# Altium footprint library USBC_to_DP.PcbLib: 21 footprints (part 2 of 2)
Each footprint in its own frame and in the unit in brackets; x right, y up, seen from the top. Pads: shape width x height; smd on the part's side, far side on the other; paste and mask are expansions set on the pad; w line width, h text height; cw(c..) or ccw(c..) is an arc to the next point about the centre after c.
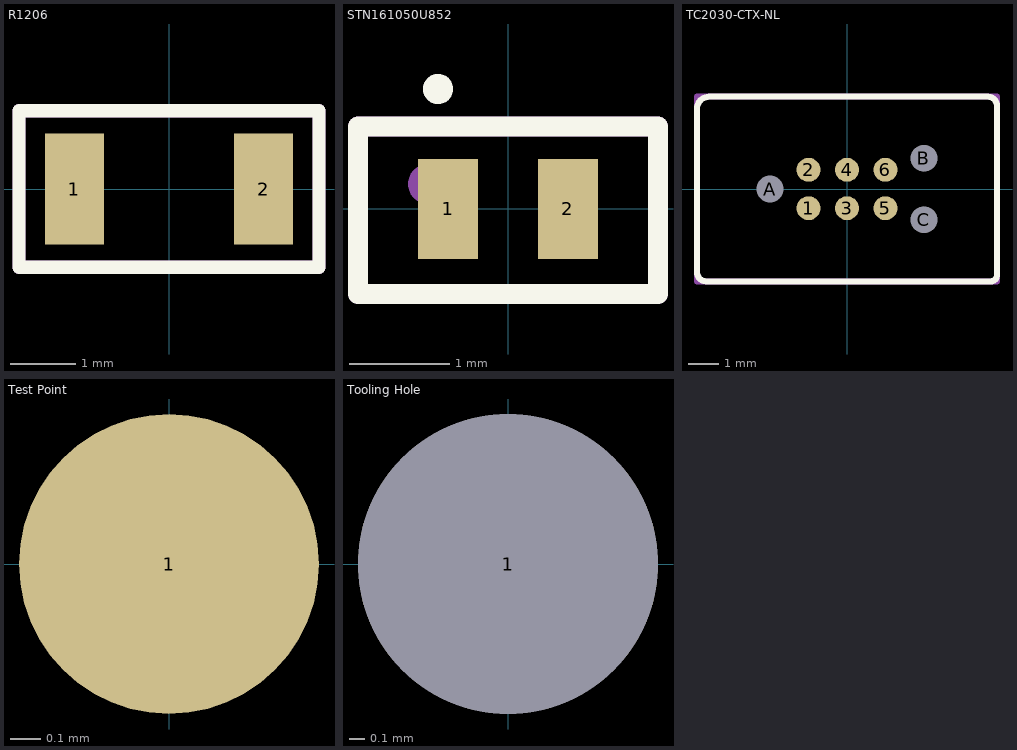
[diagram p1: the footprints below, top view; thin cyan lines are the x and y axes]

## R1206 [mm]
pads (2):
  rect 0.9x1.7 smd: 1(-1.45,0) 2(1.45,0)
Top Overlay:
  lines w0.2: -2.3,-1.2 2.3,-1.2 2.3,1.2 -2.3,1.2 -2.3,-1.2
Mechanical 29:
  lines w0.2: -2.3,-1.2 -2.3,1.2 2.3,1.2 2.3,-1.2 -2.3,-1.2
  text "'.Designator'" at -1.5,-0.5 h1
3D body "R1206.stp": height 0.56, standoff 0.01, extent -1.6,-0.8 1.6,0.8

## STN161050U852 [mm]
pads (2):
  rect 0.6x1 smd mask+0.064: 1(-0.6,0) 2(0.6,0)
Top Overlay:
  circle w0.2: c-0.7,1.2 r0.05
  lines w0.2: -1.5,-0.85 1.5,-0.85 1.5,0.825 -1.5,0.825 -1.5,-0.85
Mechanical 29:
  circle w0.2: c-0.8,0.25 r0.1
  lines w0.2: -1.5,-0.85 -1.5,0.825 1.5,0.825 1.5,0.375 1.5,-0.375 1.5,-0.85 -1.5,-0.85
  text "'.Designator'" at -0.5,-0.5 h0.8
3D body "D1213A-01LP-7B v3.step": height 0.5, standoff 0, extent -0.537,-0.337 0.537,0.337

## TC2030-CTX-NL [mil]
pads (9):
  round 31 smd paste-19.68: 1(-50,-25) 2(-50,25) 3(0,-25) 4(0,25) 5(50,-25) 6(50,25)
  round 34 hole 35 unplated: A(-100,0) B(100,40) C(100,-40)
Top Overlay:
  lines w7.87: -195,-108.15 ccw(c-183.15,-108.15) -183.15,-120 187.09,-120 ccw(c187.09,-112.09) 195,-112.09 195,108.15 ccw(c183.15,108.15) 183.15,120 -179.21,120 ccw(c-179.21,104.21) -195,104.21 -195,-108.15
Mechanical 29:
  lines w7.87: -194.88,-120.08 195,-120.08 195,120.08 -194.88,120.08 -194.88,-120.08
  text "'.Designator'" at -82.68,-23.62 h33.46

## Test Point [mm]
pads (1):
  round 1 smd paste-1: 1(0,0)

## Tooling Hole [mm]
pads (1):
  round 2 hole 2 unplated: 1(0,0)